# EAGLE library part XS04-4S (library connectors)
Shielded connector, 4 pins, 4 shield pins
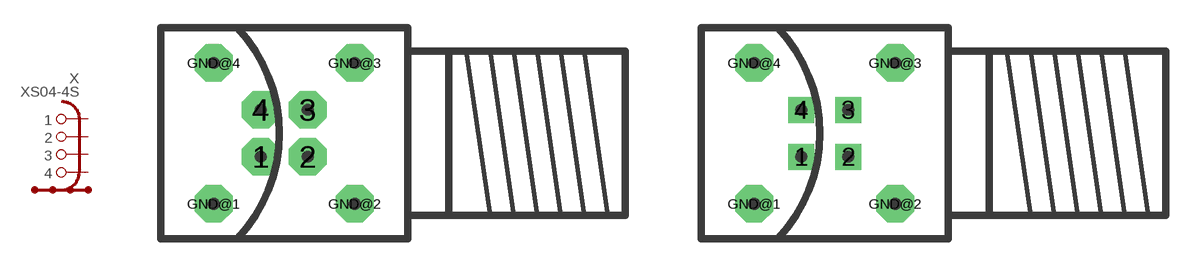
[diagram p58: symbol with the pads of XS04-LEMON; footprints XS04-LEMON, XS04-LEMOR]

Designator prefix X

## XS04-4S-LEMON  [XS04-LEMON]
1  1
2  2
3  3
4  4
GND@1  GND
GND@2  GND
GND@3  GND
GND@4  GND

## XS04-4S-LEMOR  [XS04-LEMOR]
Pads as for XS04-LEMON

## Footprint XS04-LEMON (pad centres in mm)
LEMO connector 0B, 4 pins Connector center 6.9mm above PCB surface - LEMO: EXG.0B.304.HLN
drill 0.813 pad 2.032 octagon: 1 -1.27,-1.27; 2 1.27,-1.27; 3 1.27,1.27; 4 -1.27,1.27; GND@1 -3.81,-3.81; GND@2 3.81,-3.81; GND@3 3.81,3.81; GND@4 -3.81,3.81

## Footprint XS04-LEMOR (pad centres in mm)
LEMO connector 0B, 4 pins, reduced pads Connector center 6.9mm above PCB surface - LEMO: EXG.0B.304.HLN
drill 0.813 pad 1.397 square: 1 -1.27,-1.27; 2 1.27,-1.27; 3 1.27,1.27; 4 -1.27,1.27
drill 0.813 pad 2.032 octagon: GND@1 -3.81,-3.81; GND@2 3.81,-3.81; GND@3 3.81,3.81; GND@4 -3.81,3.81